# EAGLE library part AD5290 (library test_lib)
AD5290 SPI Compact +30 V / ±15 V 256-Position Digital Potentiometer in a 10-TFSOP, 10-MSOP package. Specs @ http://www.analog.com/en/digital-to-analog-converters/digital-potentiometers/ad5290/products/product.html
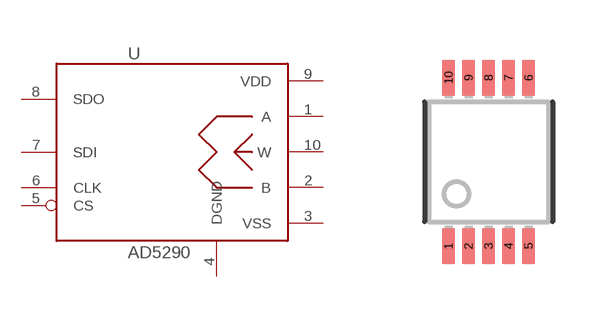
[diagram p0: symbol with the pads of MSOP_10; footprint MSOP_10]

Designator prefix -

## AD5290  [MSOP_10]
1  A
2  B
3  VSS
4  DGND
5  CS  in
6  CLK
7  SDI
8  SDO
9  VDD
10  W

## Footprint MSOP_10 (pad centres in mm)
smd 0.305 x 0.889: 1 -1,-2.11; 2 -0.5,-2.11; 3 0,-2.11; 4 0.5,-2.11; 5 1,-2.11; 6 1,2.11; 7 0.5,2.11; 8 0,2.11; 9 -0.5,2.11; 10 -1,2.11